# EAGLE library part 2X8_HEADER (library CONNECTORs)
A 2 row, 8 column, 16 pin 0.1" header.
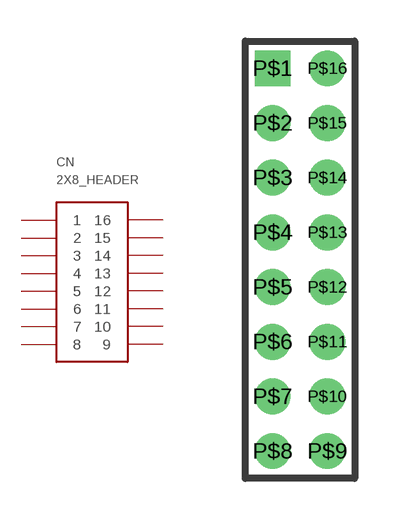
[diagram p2: symbol with the pads of 2X8_2MMHEADER; footprint 2X8_2MMHEADER]

Designator prefix CN

## 2X8_HEADERSTRT  [2X8_2MMHEADER]
P$1  1
P$2  2
P$3  3
P$4  4
P$5  5
P$6  6
P$7  7
P$8  8
P$9  9
P$10  10
P$11  11
P$12  12
P$13  13
P$14  14
P$15  15
P$16  16

## Footprint 2X8_2MMHEADER (pad centres in mm)
drill 0.8 square: P$1 -1,7
drill 0.8: P$2 -1,5; P$3 -1,3; P$4 -1,1; P$5 -1,-1; P$6 -1,-3; P$7 -1,-5; P$8 -1,-7; P$9 1,-7; P$10 1,-5; P$11 1,-3; P$12 1,-1; P$13 1,1; P$14 1,3; P$15 1,5; P$16 1,7